# EAGLE library part FX10A-120S/12-SV(71) (library temp)
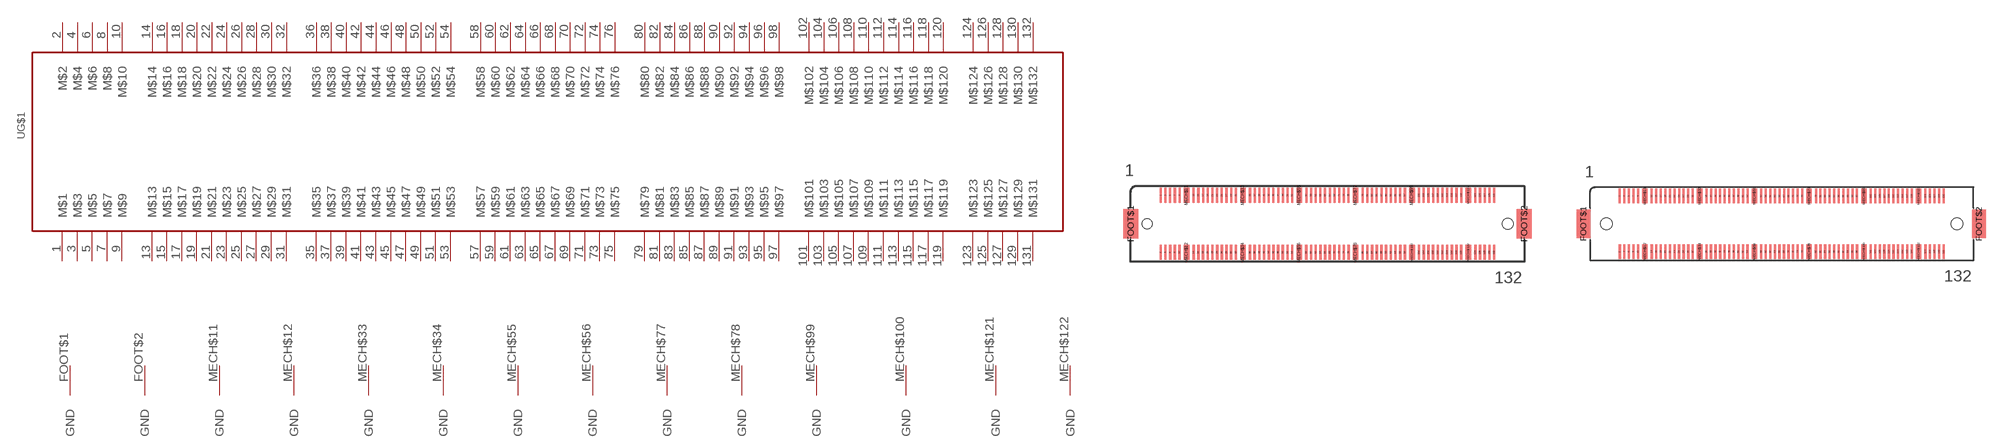
[diagram p0: symbol with the pads of FX10A-120S/12-S_DATASHEET; footprints FX10A-120S/12-S_DATASHEET, FX10A-120S/12-S_OLIMEX]

Designator prefix -; gates G$1=HIROS-FX10X-120X/12-SV_PIC32 GND@1=GND GND@2=GND GND@11=GND G$12=GND G$33=GND G$34=GND G$55=GND G$56=GND G$77=GND G$78=GND G$99=GND G$100=GND G$121=GND G$122=GND

## FX10A-120S/12-SV(71)  [FX10A-120S/12-S_DATASHEET]
1  G$1:M$1
2  G$1:M$2
3  G$1:M$3
4  G$1:M$4
5  G$1:M$5
6  G$1:M$6
7  G$1:M$7
8  G$1:M$8
9  G$1:M$9
10  G$1:M$10
13  G$1:M$13
14  G$1:M$14
15  G$1:M$15
16  G$1:M$16
17  G$1:M$17
18  G$1:M$18
19  G$1:M$19
20  G$1:M$20
21  G$1:M$21
22  G$1:M$22
23  G$1:M$23
24  G$1:M$24
25  G$1:M$25
26  G$1:M$26
27  G$1:M$27
28  G$1:M$28
29  G$1:M$29
30  G$1:M$30
31  G$1:M$31
32  G$1:M$32
35  G$1:M$35
36  G$1:M$36
37  G$1:M$37
38  G$1:M$38
39  G$1:M$39
40  G$1:M$40
41  G$1:M$41
42  G$1:M$42
43  G$1:M$43
44  G$1:M$44
45  G$1:M$45
46  G$1:M$46
47  G$1:M$47
48  G$1:M$48
49  G$1:M$49
50  G$1:M$50
51  G$1:M$51
52  G$1:M$52
53  G$1:M$53
54  G$1:M$54
57  G$1:M$57
58  G$1:M$58
59  G$1:M$59
60  G$1:M$60
61  G$1:M$61
62  G$1:M$62
63  G$1:M$63
64  G$1:M$64
65  G$1:M$65
66  G$1:M$66
67  G$1:M$67
68  G$1:M$68
69  G$1:M$69
70  G$1:M$70
71  G$1:M$71
72  G$1:M$72
73  G$1:M$73
74  G$1:M$74
75  G$1:M$75
76  G$1:M$76
79  G$1:M$79
80  G$1:M$80
81  G$1:M$81
82  G$1:M$82
83  G$1:M$83
84  G$1:M$84
85  G$1:M$85
86  G$1:M$86
87  G$1:M$87
88  G$1:M$88
89  G$1:M$89
90  G$1:M$90
91  G$1:M$91
92  G$1:M$92
93  G$1:M$93
94  G$1:M$94
95  G$1:M$95
96  G$1:M$96
97  G$1:M$97
98  G$1:M$98
101  G$1:M$101
102  G$1:M$102
103  G$1:M$103
104  G$1:M$104
105  G$1:M$105
106  G$1:M$106
107  G$1:M$107
108  G$1:M$108
109  G$1:M$109
110  G$1:M$110
111  G$1:M$111
112  G$1:M$112
113  G$1:M$113
114  G$1:M$114
115  G$1:M$115
116  G$1:M$116
117  G$1:M$117
118  G$1:M$118
119  G$1:M$119
120  G$1:M$120
123  G$1:M$123
124  G$1:M$124
125  G$1:M$125
126  G$1:M$126
127  G$1:M$127
128  G$1:M$128
129  G$1:M$129
130  G$1:M$130
131  G$1:M$131
132  G$1:M$132
FOOT$1  GND@1:GND  pwr
FOOT$2  GND@2:GND  pwr
MECH$11  GND@11:GND  pwr
MECH$12  G$12:GND  pwr
MECH$33  G$33:GND  pwr
MECH$34  G$34:GND  pwr
MECH$55  G$55:GND  pwr
MECH$56  G$56:GND  pwr
MECH$77  G$77:GND  pwr
MECH$78  G$78:GND  pwr
MECH$99  G$99:GND  pwr
MECH$100  G$100:GND  pwr
MECH$121  G$121:GND  pwr
MECH$122  G$122:GND  pwr

## FX10A-120S/12-SV(71)O  [FX10A-120S/12-S_OLIMEX]
Pads as for FX10A-120S/12-S_DATASHEET

## Footprint FX10A-120S/12-S_DATASHEET (pad centres in mm)
smd 0.23 x 1.6: 1 -17.75,3.05; 3 -17.25,3.05; 5 -16.75,3.05; 7 -16.25,3.05; 9 -15.75,3.05; 13 -14.25,3.05; 15 -13.75,3.05; 17 -13.25,3.05; 19 -12.75,3.05; 21 -12.25,3.05; 23 -11.75,3.05; 25 -11.25,3.05; 27 -10.75,3.05; 29 -10.25,3.05; 31 -9.75,3.05; 35 -8.25,3.05; 37 -7.75,3.05; 39 -7.25,3.05; 41 -6.75,3.05; 43 -6.25,3.05; 45 -5.75,3.05; 47 -5.25,3.05; 49 -4.75,3.05; 51 -4.25,3.05; 53 -3.75,3.05; 57 -2.25,3.05; 59 -1.75,3.05; 61 -1.25,3.05; 63 -0.75,3.05; 65 -0.25,3.05; 67 0.25,3.05; 69 0.75,3.05; 71 1.25,3.05; 73 1.75,3.05; 75 2.25,3.05; 79 3.75,3.05; 81 4.25,3.05; 83 4.75,3.05; 85 5.25,3.05; 87 5.75,3.05; 89 6.25,3.05; 91 6.75,3.05; 93 7.25,3.05; 95 7.75,3.05; 97 8.25,3.05; 101 9.75,3.05; 103 10.25,3.05; 105 10.75,3.05; 107 11.25,3.05; 109 11.75,3.05; 111 12.25,3.05; 113 12.75,3.05; 115 13.25,3.05; 117 13.75,3.05; 119 14.25,3.05; 123 15.75,3.05; 125 16.25,3.05; 127 16.75,3.05; 129 17.25,3.05; 131 17.75,3.05
smd 0.25 x 1.6: 2 -17.75,-3.05; 4 -17.25,-3.05; 6 -16.75,-3.05; 8 -16.25,-3.05; 10 -15.75,-3.05; 14 -14.25,-3.05; 16 -13.75,-3.05; 18 -13.25,-3.05; 20 -12.75,-3.05; 22 -12.25,-3.05; 24 -11.75,-3.05; 26 -11.25,-3.05; 28 -10.75,-3.05; 30 -10.25,-3.05; 32 -9.75,-3.05; 36 -8.25,-3.05; 38 -7.75,-3.05; 40 -7.25,-3.05; 42 -6.75,-3.05; 44 -6.25,-3.05; 46 -5.75,-3.05; 48 -5.25,-3.05; 50 -4.75,-3.05; 52 -4.25,-3.05; 54 -3.75,-3.05; 58 -2.25,-3.05; 60 -1.75,-3.05; 62 -1.25,-3.05; 64 -0.75,-3.05; 66 -0.25,-3.05; 68 0.25,-3.05; 70 0.75,-3.05; 72 1.25,-3.05; 74 1.75,-3.05; 76 2.25,-3.05; 80 3.75,-3.05; 82 4.25,-3.05; 84 4.75,-3.05; 86 5.25,-3.05; 88 5.75,-3.05; 90 6.25,-3.05; 92 6.75,-3.05; 94 7.25,-3.05; 96 7.75,-3.05; 98 8.25,-3.05; 102 9.75,-3.05; 104 10.25,-3.05; 106 10.75,-3.05; 108 11.25,-3.05; 110 11.75,-3.05; 112 12.25,-3.05; 114 12.75,-3.05; 116 13.25,-3.05; 118 13.75,-3.05; 120 14.25,-3.05; 124 15.75,-3.05; 126 16.25,-3.05; 128 16.75,-3.05; 130 17.25,-3.05; 132 17.75,-3.05
smd 1.6 x 3.1: FOOT$1 -20.95,0; FOOT$2 20.95,0
smd 0.6 x 1.6: MECH$11 -15,3.05; MECH$12 -15,-3.05; MECH$33 -9,3.05; MECH$34 -9,-3.05; MECH$55 -3,3.05; MECH$56 -3,-3.05; MECH$77 3,3.05; MECH$78 3,-3.05; MECH$99 9,3.05; MECH$100 9,-3.05; MECH$121 15,3.05; MECH$122 15,-3.05
hole 1.2 at 19.2,0
hole 1.1 at -19.2,0

## Footprint FX10A-120S/12-S_OLIMEX (pad centres in mm)
smd 0.23 x 1.6: 1 -17.75,3.05; 3 -17.25,3.05; 5 -16.75,3.05; 7 -16.25,3.05; 9 -15.75,3.05; 13 -14.25,3.05; 15 -13.75,3.05; 17 -13.25,3.05; 19 -12.75,3.05; 21 -12.25,3.05; 23 -11.75,3.05; 25 -11.25,3.05; 27 -10.75,3.05; 29 -10.25,3.05; 31 -9.75,3.05; 35 -8.25,3.05; 37 -7.75,3.05; 39 -7.25,3.05; 41 -6.75,3.05; 43 -6.25,3.05; 45 -5.75,3.05; 47 -5.25,3.05; 49 -4.75,3.05; 51 -4.25,3.05; 53 -3.75,3.05; 57 -2.25,3.05; 59 -1.75,3.05; 61 -1.25,3.05; 63 -0.75,3.05; 65 -0.25,3.05; 67 0.25,3.05; 69 0.75,3.05; 71 1.25,3.05; 73 1.75,3.05; 75 2.25,3.05; 79 3.75,3.05; 81 4.25,3.05; 83 4.75,3.05; 85 5.25,3.05; 87 5.75,3.05; 89 6.25,3.05; 91 6.75,3.05; 93 7.25,3.05; 95 7.75,3.05; 97 8.25,3.05; 101 9.75,3.05; 103 10.25,3.05; 105 10.75,3.05; 107 11.25,3.05; 109 11.75,3.05; 111 12.25,3.05; 113 12.75,3.05; 115 13.25,3.05; 117 13.75,3.05; 119 14.25,3.05; 123 15.75,3.05; 125 16.25,3.05; 127 16.75,3.05; 129 17.25,3.05; 131 17.75,3.05
smd 0.25 x 1.6: 2 -17.75,-3.05; 4 -17.25,-3.05; 6 -16.75,-3.05; 8 -16.25,-3.05; 10 -15.75,-3.05; 14 -14.25,-3.05; 16 -13.75,-3.05; 18 -13.25,-3.05; 20 -12.75,-3.05; 22 -12.25,-3.05; 24 -11.75,-3.05; 26 -11.25,-3.05; 28 -10.75,-3.05; 30 -10.25,-3.05; 32 -9.75,-3.05; 36 -8.25,-3.05; 38 -7.75,-3.05; 40 -7.25,-3.05; 42 -6.75,-3.05; 44 -6.25,-3.05; 46 -5.75,-3.05; 48 -5.25,-3.05; 50 -4.75,-3.05; 52 -4.25,-3.05; 54 -3.75,-3.05; 58 -2.25,-3.05; 60 -1.75,-3.05; 62 -1.25,-3.05; 64 -0.75,-3.05; 66 -0.25,-3.05; 68 0.25,-3.05; 70 0.75,-3.05; 72 1.25,-3.05; 74 1.75,-3.05; 76 2.25,-3.05; 80 3.75,-3.05; 82 4.25,-3.05; 84 4.75,-3.05; 86 5.25,-3.05; 88 5.75,-3.05; 90 6.25,-3.05; 92 6.75,-3.05; 94 7.25,-3.05; 96 7.75,-3.05; 98 8.25,-3.05; 102 9.75,-3.05; 104 10.25,-3.05; 106 10.75,-3.05; 108 11.25,-3.05; 110 11.75,-3.05; 112 12.25,-3.05; 114 12.75,-3.05; 116 13.25,-3.05; 118 13.75,-3.05; 120 14.25,-3.05; 124 15.75,-3.05; 126 16.25,-3.05; 128 16.75,-3.05; 130 17.25,-3.05; 132 17.75,-3.05
smd 1.5 x 3.1: FOOT$1 -21.727,0; FOOT$2 21.625,0
smd 0.6 x 1.6: MECH$11 -15,3.05; MECH$12 -15,-3.05; MECH$33 -9,3.05; MECH$34 -9,-3.05; MECH$55 -3,3.05; MECH$56 -3,-3.05; MECH$77 3,3.05; MECH$78 3,-3.05; MECH$99 9,3.05; MECH$100 9,-3.05; MECH$121 15,3.05; MECH$122 15,-3.05
hole 1.3 at 19.2,0
hole 1.3 at -19.2,0